# EAGLE library part MPT20 (library pluggable_terminal_blocks)
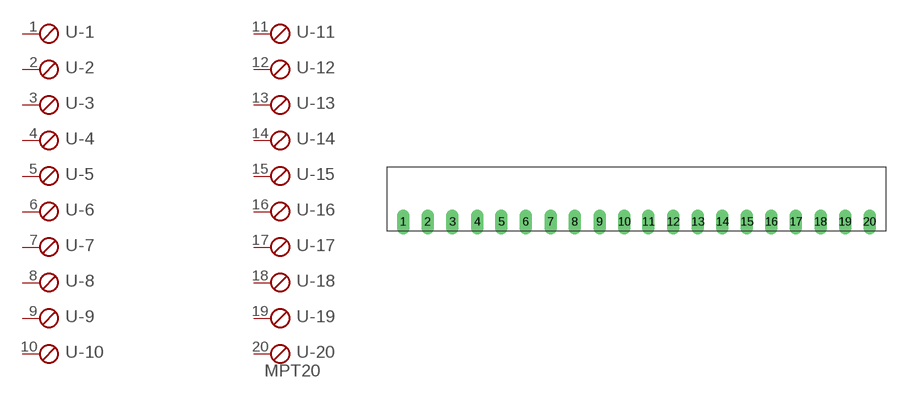
[diagram p13: symbol with the pads of 20POL35; footprint 20POL35]

Designator prefix -; gates -1=SKB -2=SKB -3=SKB -4=SKB -5=SKB -6=SKB -7=SKB -8=SKB -9=SKB -10=SKB -11=SKB -12=SKB -13=SKB -14=SKB -15=SKB -16=SKB -17=SKB -18=SKB -19=SKB -20=SKBV

## MPT20  [20POL35]
1  -1:1  pas
2  -2:1  pas
3  -3:1  pas
4  -4:1  pas
5  -5:1  pas
6  -6:1  pas
7  -7:1  pas
8  -8:1  pas
9  -9:1  pas
10  -10:1  pas
11  -11:1  pas
12  -12:1  pas
13  -13:1  pas
14  -14:1  pas
15  -15:1  pas
16  -16:1  pas
17  -17:1  pas
18  -18:1  pas
19  -19:1  pas
20  -20:1  pas

## Footprint 20POL35 (pad centres in mm)
drill 1.2 long: 1 -33.27,0; 2 -29.78,0; 3 -26.24,0; 4 -22.7,0; 5 -19.26,0; 6 -15.77,0; 7 -12.23,0; 8 -8.79,0; 9 -5.25,0; 10 -1.71,0; 11 1.73,0; 12 5.27,0; 13 8.77,0; 14 12.27,0; 15 15.77,0; 16 19.27,0; 17 22.77,0; 18 26.27,0; 19 29.77,0; 20 33.27,0